# Altium footprint library AdaptWing.PcbLib: 24 footprints (part 2 of 2)
Each footprint in its own frame and in the unit in brackets; x right, y up, seen from the top. Pads: shape width x height; smd on the part's side, far side on the other; paste and mask are expansions set on the pad; w line width, h text height; cw(c..) or ccw(c..) is an arc to the next point about the centre after c.
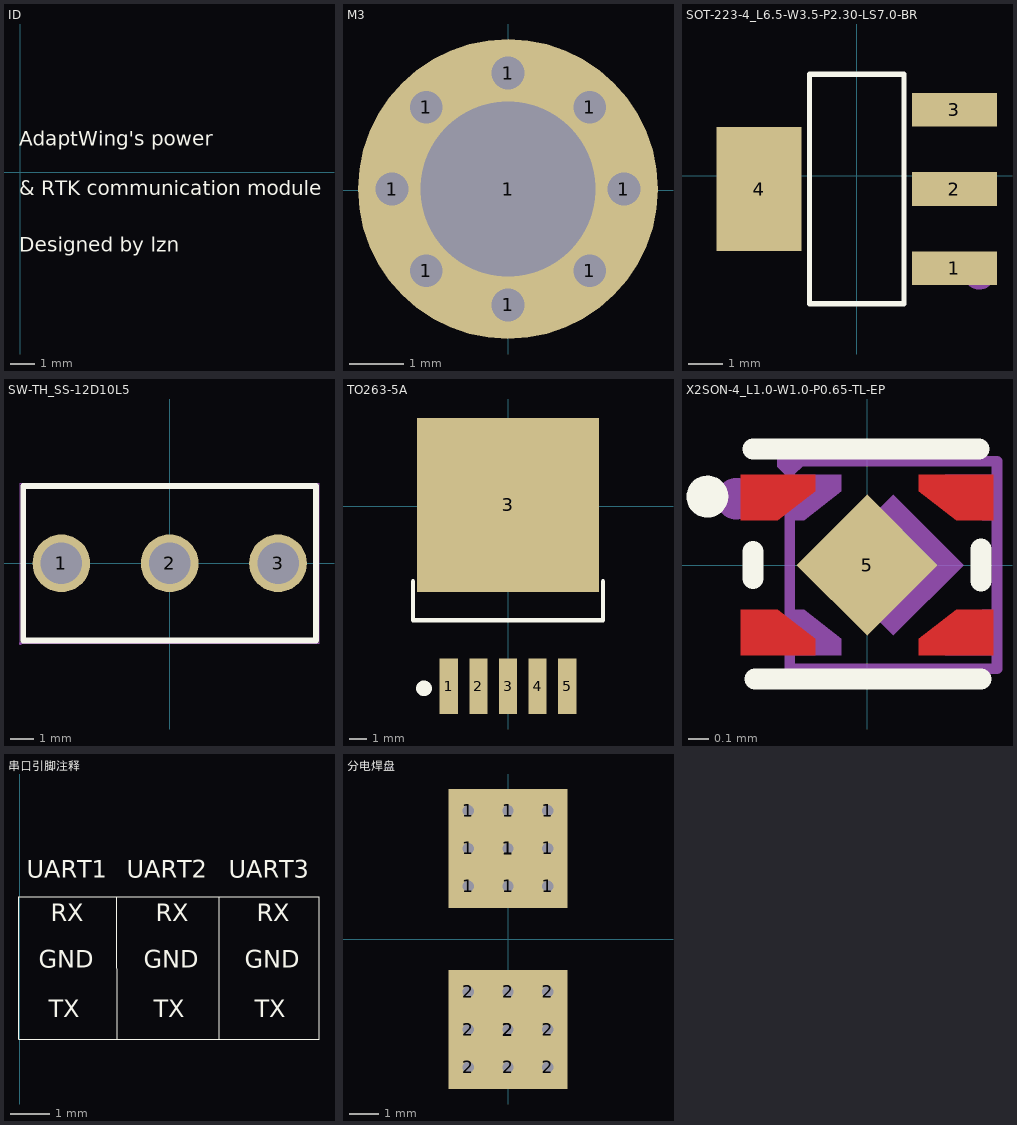
[diagram p1: the footprints below, top view; thin cyan lines are the x and y axes]

## ID [mm]
Top Overlay:
  text "Designed by lzn" at -0.051,-3.467 h1.02
  text "AdaptWing's power" at -0.051,0.876 h1.02
  text "& RTK communication module" at -0.051,-1.147 h1.02

## M3 [mm]
pads (9):
  round 0.615 hole 0.6 paste+0 mask+0.102: 1(-2.125,0.025) 1(-1.5,-1.475) 1(-1.5,1.525) 1(0,-2.1) 1(0,2.15) 1(1.5,-1.475) 1(1.5,1.525) 1(2.125,0.025)
  round 5.5 hole 3.2 paste+0 mask+0.102: 1(0,0.025)

## SOT-223-4_L6.5-W3.5-P2.30-LS7.0-BR [mm]
pads (4):
  rect 2.47x0.98 smd paste+0 mask+0.051: 1(2.835,-2.681) 2(2.835,-0.381) 3(2.835,1.919)
  rect 2.47x3.6 smd paste+0 mask+0.051: 4(-2.835,-0.381)
Top Overlay:
  lines w0.152: -1.371,-3.707 1.371,-3.707 1.371,2.945 -1.371,2.945 -1.371,-3.707
Mechanical 15:
  circle w0.5: c3.556,-2.794 r0.25
3D body "3D_PCB1_2023-06-11 v2.step": height 1.75, standoff 0, extent -3.554,-3.63 3.554,2.868

## SW-TH_SS-12D10L5 [mm]
pads (3):
  round 2.5 hole 1.8 paste+0 mask+0.051: 1(-4.7,0) 2(0,0) 3(4.7,0)
Top Overlay:
  lines w0.254: -6.35,-3.35 6.35,-3.35 6.35,3.35 -6.35,3.35 -6.35,-3.35
Mechanical 15:
  region: -3.9,0 -3.9,0.105 -3.955,0.309 -4.06,0.491 -4.209,0.64 -4.391,0.745 -4.595,0.8 -4.805,0.8 -5.009,0.745 -5.191,0.64 -5.34,0.491 -5.445,0.309 -5.5,0.105 -5.5,0 -5.5,-0.105 -5.445,-0.309 -5.34,-0.491 -5.191,-0.64 -5.009,-0.745 -4.805,-0.8 -4.595,-0.8 -4.391,-0.745 -4.209,-0.64 -4.06,-0.491 -3.955,-0.309 -3.9,-0.105 -3.9,0
  region: 0.8,0 0.8,0.105 0.745,0.309 0.64,0.491 0.491,0.64 0.309,0.745 0.105,0.8 -0.105,0.8 -0.309,0.745 -0.491,0.64 -0.64,0.491 -0.745,0.309 -0.8,0.105 -0.8,0 -0.8,-0.105 -0.745,-0.309 -0.64,-0.491 -0.491,-0.64 -0.309,-0.745 -0.105,-0.8 0.105,-0.8 0.309,-0.745 0.491,-0.64 0.64,-0.491 0.745,-0.309 0.8,-0.105 0.8,0
  region: 5.5,0 5.5,0.105 5.445,0.309 5.34,0.491 5.191,0.64 5.009,0.745 4.805,0.8 4.595,0.8 4.391,0.745 4.209,0.64 4.06,0.491 3.955,0.309 3.9,0.105 3.9,0 3.9,-0.105 3.955,-0.309 4.06,-0.491 4.209,-0.64 4.391,-0.745 4.595,-0.8 4.805,-0.8 5.009,-0.745 5.191,-0.64 5.34,-0.491 5.445,-0.309 5.5,-0.105 5.5,0
  region: -6.417,-3.477 -6.417,-3.452 -6.452,-3.417 -6.502,-3.417 -6.537,-3.452 -6.537,-3.477 -6.537,-3.502 -6.502,-3.537 -6.452,-3.537 -6.417,-3.502 -6.417,-3.477
  lines w0.051: -6.477,-3.477 6.477,-3.477 6.477,3.477 -6.477,3.477 -6.477,-3.477
3D body "SW-TH_SS-12D10L5.step": height 10.1, standoff -7, extent -6.5,-3.4 6.501,3.4

## TO263-5A [mm]
pads (6):
  rect 1.05x3.2 smd paste+0 mask+0.051: 1(-3.4,-10.336) 2(-1.7,-10.336) 3(0,-10.336) 4(1.7,-10.336) 5(3.4,-10.336)
  rect 10.45x10 smd paste+0 mask+0.051: 3(0,0.078)
Top Overlay:
  lines w0.254: -5.461,-4.299 -5.461,-6.549 5.461,-6.549 5.461,-4.299
  lines w0.5: -4.83,-10.663 cw(c-4.826,-10.463) -4.826,-10.663
3D body "TO263-5A.step": height 4.5, standoff 0, extent -5,-10.501 5,3.699

## X2SON-4_L1.0-W1.0-P0.65-TL-EP [mm]
pads (1):
  rect 0.48x0.48 smd rot 45 paste+0 mask+0.05: 5(0,0)
Top Layer:
  region: 0.61,0.435 0.61,0.215 0.43,0.215 0.25,0.355 0.25,0.435
  region: 0.61,-0.435 0.61,-0.215 0.43,-0.215 0.25,-0.355 0.25,-0.435
  region: -0.61,-0.435 -0.61,-0.215 -0.43,-0.215 -0.25,-0.355 -0.25,-0.435
  region: -0.61,0.435 -0.61,0.215 -0.43,0.215 -0.25,0.355 -0.25,0.435
Top Overlay:
  circle w0.102: c-0.77,0.33 r0.05
  lines w0.102: -0.55,-0.065 -0.55,0.02 -0.55,0.065 ; -0.55,0.56 0.54,0.56 ; -0.54,-0.55 -0.37,-0.55 0.55,-0.55 ; 0.55,-0.077 0.55,0.077
Mechanical 6:
  circle w0.1: c-0.63,0.32 r0.05
Mechanical 15:
  region: -0.313,0.5 -0.313,0.525 -0.348,0.56 -0.398,0.56 -0.433,0.525 -0.433,0.5 -0.433,0.475 -0.398,0.44 -0.348,0.44 -0.313,0.475 -0.313,0.5
  region: 0.627,0.435 0.627,0.315 0.627,0.215 0.557,0.215 0.377,0.355 0.377,0.435 0.617,0.435 0.627,0.435
  region: -0.373,0.425 -0.373,0.215 -0.303,0.215 -0.123,0.355 -0.123,0.435 -0.373,0.435
  region: -0.373,-0.415 -0.373,-0.335 -0.373,-0.215 -0.303,-0.215 -0.123,-0.355 -0.123,-0.435 -0.373,-0.435 -0.373,-0.425
  region: 0.377,-0.435 0.377,-0.355 0.557,-0.215 0.627,-0.215 0.627,-0.325 0.627,-0.425 0.627,-0.435 0.617,-0.435 0.627,-0.435 0.377,-0.435
  region: -0.212,0 0.127,0.339 0.466,0 0.127,-0.339
  lines w0.051: -0.373,-0.5 -0.373,0.5 0.627,0.5 0.627,-0.5 -0.373,-0.5

## 串口引脚注释 [mm]
Top Overlay:
  lines w0.025: 2.46,7.68 2.464,4.089 ; 5.076,4.089 5.076,7.706 ; -0.016,4.089 7.604,4.089 7.604,7.709 -0.016,7.709 -0.016,4.089
  text "GND" at 5.715,5.748 h0.76
  text "TX" at 5.969,4.496 h0.76
  text "RX" at 6.02,6.934 h0.76
  text "GND" at 3.15,5.748 h0.76
  text "TX" at 3.404,4.496 h0.76
  text "RX" at 3.454,6.934 h0.76
  text "UART2" at 2.721,8.035 h0.76
  text "GND" at 0.483,5.748 h0.76
  text "TX" at 0.737,4.496 h0.76
  text "RX" at 0.787,6.934 h0.76
  text "UART1" at 0.178,8.035 h0.76
  text "UART3" at 5.309,8.035 h0.76

## 分电焊盘 [mil]
pads (20):
  round 30 hole 15: 1(-52.5,70) 1(-52.5,120) 1(-52.5,170) 1(0,70) 1(0,120) 1(0,170) 1(52.5,70) 1(52.5,120) 1(52.5,170) 2(-52.5,-170) 2(-52.5,-120) 2(-52.5,-70) 2(0,-170) 2(0,-120) 2(0,-70) 2(52.5,-170) 2(52.5,-120) 2(52.5,-70)
  rect 157.48x157.48 smd: 1(0,120) 2(0,-120)